# Altium schematic symbol library TS12A12511.SchLib: 1 symbol
Pins are listed as number, name and electrical type; pins without a type are passive.

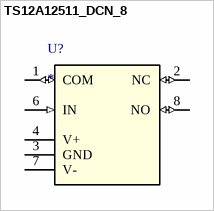
[diagram p0: symbol TS12A12511_DCN_8]

## TS12A12511_DCN_8
designator U?
+/-6 V, +12 V Low RON Single SPDT Analog Switch; Manufacturer_Part_Number: ts12a12511_dcn_8; GENERIC_PART_NUMBER: TS12A12511; Vendor: Texas Instruments; PACKAGE_DESIGNATOR: DCN; PIN_COUNT: 8; FAMILY_NAME: ANALOG SWITCH OR MULTIPLEXER (greater than 5V); INDUSTRY_STD_PKG_TYPE: SOT-23; Datasheet_URL: http://www.ti.com/lit/gpn/TS12A12511; Manufacturer: Texas Instruments; RefDes: RefDes; Type: DEV; Value: Value
footprint DCN8
pins: 1 COM (io), 2 NC (io), 3 GND (power), 4 V+ (power), 6 IN (in), 7 V- (power), 8 NO (io)